# Altium footprint library stepdown_DSUN.PcbLib: 1 footprints
Each footprint in its own frame and in the unit in brackets; x right, y up, seen from the top. Pads: shape width x height; smd on the part's side, far side on the other; paste and mask are expansions set on the pad; w line width, h text height; cw(c..) or ccw(c..) is an arc to the next point about the centre after c.
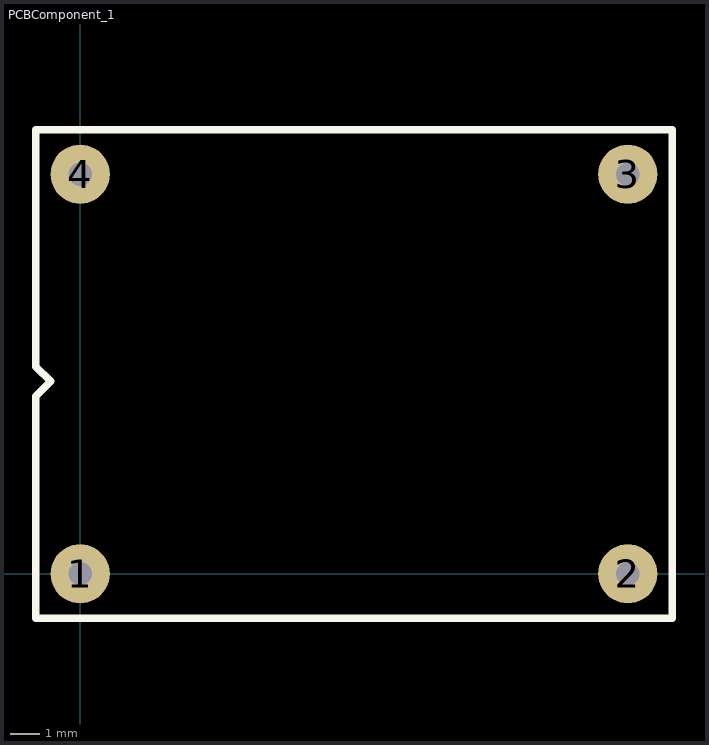
[diagram p0: the footprint, top view; thin cyan lines are the x and y axes]

## PCBComponent_1 [mm]
pads (4):
  round 2 hole 0.8: 1(0,0) 2(18.5,0) 3(18.5,13.5) 4(0,13.5)
Top Overlay:
  lines w0.254: -1,6.5 -1.5,7 -1.5,15 20,15 20,-1.5 -1.5,-1.5 -1.5,6 -1,6.5 ; -1,6.5 -1,6.5